# EAGLE library part CBM_4203 (library u1200)
CBM 4203 "Lisa"
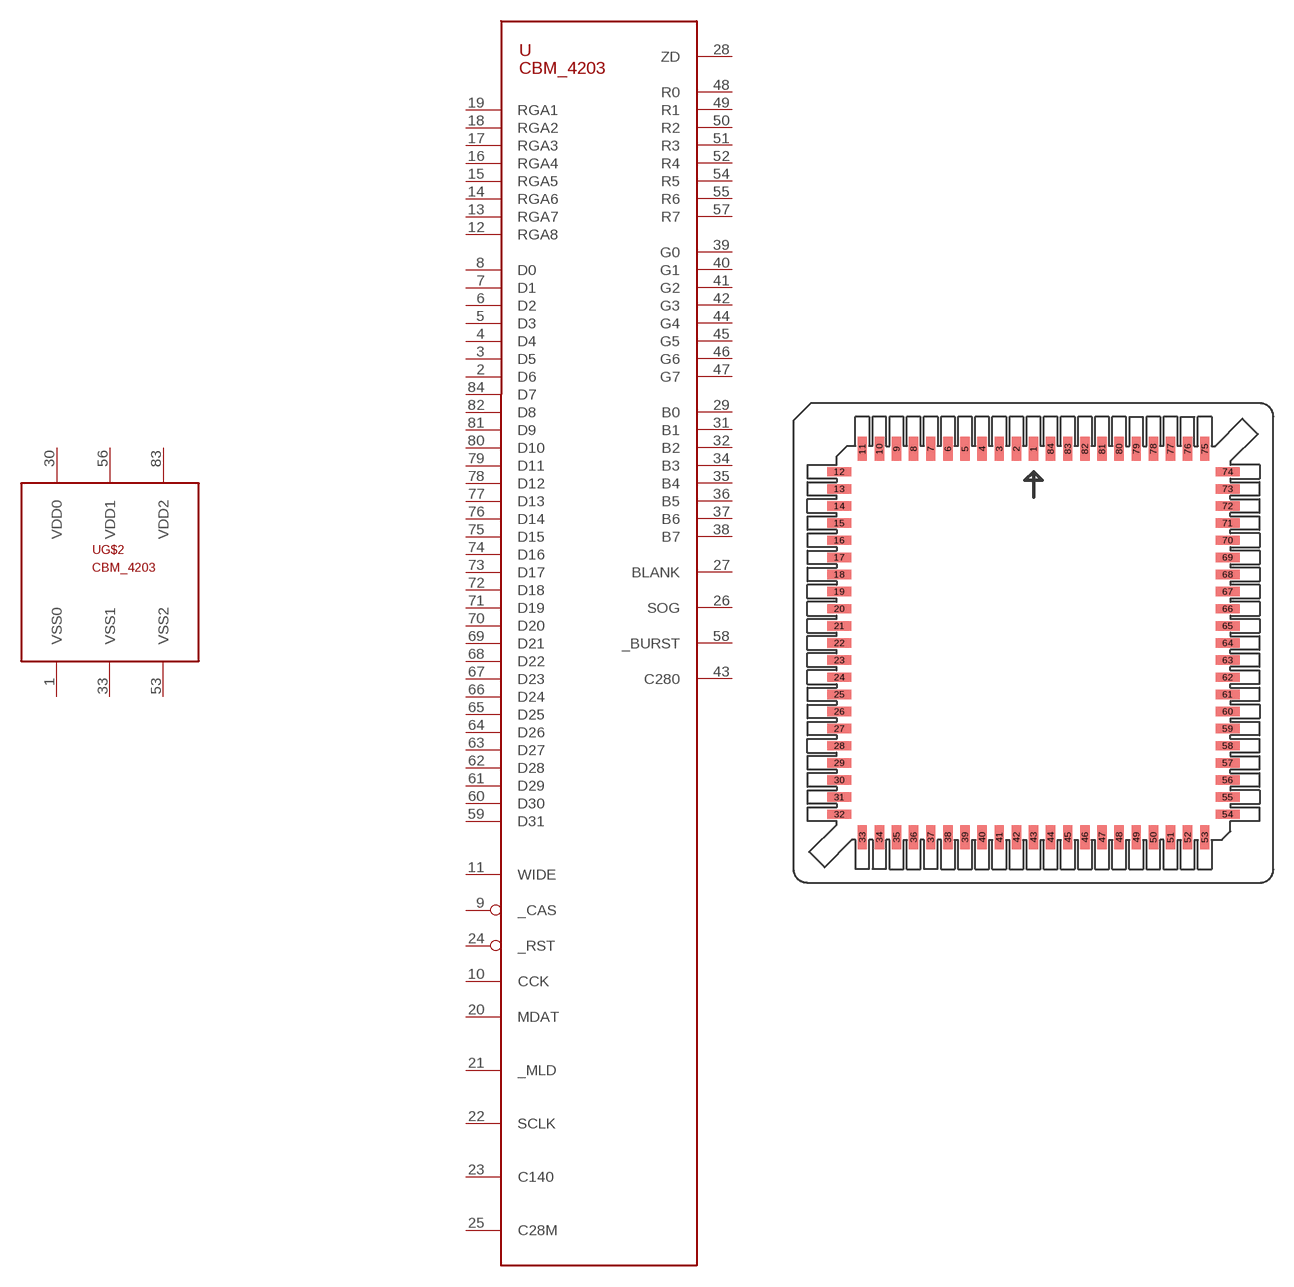
[diagram p4: symbol with the pads of PLCC84-SMD-AMP-SOCKED; footprint PLCC84-SMD-AMP-SOCKED]

Designator prefix -; gates G$1=CBM_4203_VIDEO G$2=CBM_4203_PWR

## CBM_4203  [PLCC84-SMD-AMP-SOCKED]
1  G$2:VSS0
2  G$1:D6
3  G$1:D5
4  G$1:D4
5  G$1:D3
6  G$1:D2
7  G$1:D1
8  G$1:D0
9  G$1:_CAS
10  G$1:CCK
11  G$1:WIDE  nc
12  G$1:RGA8
13  G$1:RGA7
14  G$1:RGA6
15  G$1:RGA5
16  G$1:RGA4
17  G$1:RGA3
18  G$1:RGA2
19  G$1:RGA1
20  G$1:MDAT
21  G$1:_MLD
22  G$1:SCLK
23  G$1:C140
24  G$1:_RST
25  G$1:C28M
26  G$1:SOG
27  G$1:BLANK
28  G$1:ZD
29  G$1:B0
30  G$2:VDD0
31  G$1:B1
32  G$1:B2
33  G$2:VSS1
34  G$1:B3
35  G$1:B4
36  G$1:B5
37  G$1:B6
38  G$1:B7
39  G$1:G0
40  G$1:G1
41  G$1:G2
42  G$1:G3
43  G$1:C280
44  G$1:G4
45  G$1:G5
46  G$1:G6
47  G$1:G7
48  G$1:R0
49  G$1:R1
50  G$1:R2
51  G$1:R3
52  G$1:R4
53  G$2:VSS2
54  G$1:R5
55  G$1:R6
56  G$2:VDD1
57  G$1:R7
58  G$1:_BURST
59  G$1:D31
60  G$1:D30
61  G$1:D29
62  G$1:D28
63  G$1:D27
64  G$1:D26
65  G$1:D25
66  G$1:D24
67  G$1:D23
68  G$1:D22
69  G$1:D21
70  G$1:D20
71  G$1:D19
72  G$1:D18
73  G$1:D17
74  G$1:D16
75  G$1:D15
76  G$1:D14
77  G$1:D13
78  G$1:D12
79  G$1:D11
80  G$1:D10
81  G$1:D9
82  G$1:D8
83  G$2:VDD2
84  G$1:D7

## Footprint PLCC84-SMD-AMP-SOCKED (pad centres in mm)
PLCC Surface Mount 84 Position AMP 822472-7 Source: http://ecommas.tycoelectronics.com/ ...ENG_CD_822472_E.pdf
smd 0.7 x 1.78: 1 0,14.4; 2 -1.27,14.4; 3 -2.54,14.4; 4 -3.81,14.4; 5 -5.08,14.4; 6 -6.35,14.4; 7 -7.62,14.4; 8 -8.89,14.4; 9 -10.16,14.4; 10 -11.43,14.4; 11 -12.7,14.4; 33 -12.7,-14.4; 34 -11.43,-14.4; 35 -10.16,-14.4; 36 -8.89,-14.4; 37 -7.62,-14.4; 38 -6.35,-14.4; 39 -5.08,-14.4; 40 -3.81,-14.4; 41 -2.54,-14.4; 42 -1.27,-14.4; 43 0,-14.4; 44 1.27,-14.4; 45 2.54,-14.4; 46 3.81,-14.4; 47 5.08,-14.4; 48 6.35,-14.4; 49 7.62,-14.4; 50 8.89,-14.4; 51 10.16,-14.4; 52 11.43,-14.4; 53 12.7,-14.4; 75 12.7,14.4; 76 11.43,14.4; 77 10.16,14.4; 78 8.89,14.4; 79 7.62,14.4; 80 6.35,14.4; 81 5.08,14.4; 82 3.81,14.4; 83 2.54,14.4; 84 1.27,14.4
smd 1.78 x 0.7: 12 -14.4,12.7; 13 -14.4,11.43; 14 -14.4,10.16; 15 -14.4,8.89; 16 -14.4,7.62; 17 -14.4,6.35; 18 -14.4,5.08; 19 -14.4,3.81; 20 -14.4,2.54; 21 -14.4,1.27; 22 -14.4,0; 23 -14.4,-1.27; 24 -14.4,-2.54; 25 -14.4,-3.81; 26 -14.4,-5.08; 27 -14.4,-6.35; 28 -14.4,-7.62; 29 -14.4,-8.89; 30 -14.4,-10.16; 31 -14.4,-11.43; 32 -14.4,-12.7; 54 14.4,-12.7; 55 14.4,-11.43; 56 14.4,-10.16; 57 14.4,-8.89; 58 14.4,-7.62; 59 14.4,-6.35; 60 14.4,-5.08; 61 14.4,-3.81; 62 14.4,-2.54; 63 14.4,-1.27; 64 14.4,0; 65 14.4,1.27; 66 14.4,2.54; 67 14.4,3.81; 68 14.4,5.08; 69 14.4,6.35; 70 14.4,7.62; 71 14.4,8.89; 72 14.4,10.16; 73 14.4,11.43; 74 14.4,12.7